# Altium schematic symbol library NEOHM 1W 3R3.SchLib: 2 symbols
Pins are listed as number, name and electrical type; pins without a type are passive.

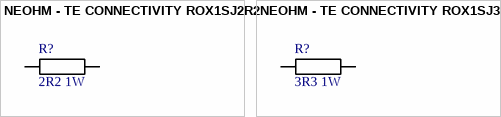
[diagram p0: symbols NEOHM - TE CONNECTIVITY ROX1SJ2R2 to NEOHM - TE CONNECTIVITY ROX1SJ3R3]

## NEOHM - TE CONNECTIVITY ROX1SJ2R2
designator R?, comment 2R2 1W
Résistance traversante, 2.2 ohm, ROX, 1 W, ± 5%, Axial, 350 V; Manufacturer Number: MRS25000C3308FCT00; Manufacturer: Vishay; PN: PN-918915; Voltage: 350V; Power: 0.6W; TemperatureRange: -55°C to 155°C; Value: 2.2; Tolerance: ±1%; IsStocked: 1; TemperatureCoeff: ±50ppm/°C; Supplier Price 1: 0.1500; SubCategory: Resistances film metallique; Category: Passives; Supplier 1: Farnell; Supplier 2: Mouser; Supplier 3: Digikey; Supplier Part Number 1: 3399704; Supplier Part Number 2: 279-ROX1SJ3R3; Supplier Part Number 3: A131468CT-ND
footprint NEOHM 1W ROX1S (THT, resistor)
pins: 1, 2

## NEOHM - TE CONNECTIVITY ROX1SJ3R3
designator R?, comment 3R3 1W
Résistance traversante, 3.3 ohm, ROX, 1 W, ± 5%, Axial, 350 V; Manufacturer Number: MRS25000C3308FCT00; Manufacturer: Vishay; PN: PN-918915; Voltage: 350V; Power: 0.6W; TemperatureRange: -55°C to 155°C; Value: 3.3; Tolerance: ±1%; IsStocked: 1; TemperatureCoeff: ±50ppm/°C; Supplier Price 1: 0.1500; SubCategory: Resistances film metallique; Category: Passives; Supplier 1: Farnell; Supplier 2: Mouser; Supplier 3: Digikey; Supplier Part Number 1: 3399704; Supplier Part Number 2: 279-ROX1SJ3R3; Supplier Part Number 3: A131468CT-ND
footprint NEOHM 1W ROX1S (THT, resistor)
pins: 1, 2